# Altium footprint library VapeixS_LIB.PcbLib: 46 footprints (part 3 of 3)
Each footprint in its own frame and in the unit in brackets; x right, y up, seen from the top. Pads: shape width x height; smd on the part's side, far side on the other; paste and mask are expansions set on the pad; w line width, h text height; cw(c..) or ccw(c..) is an arc to the next point about the centre after c.
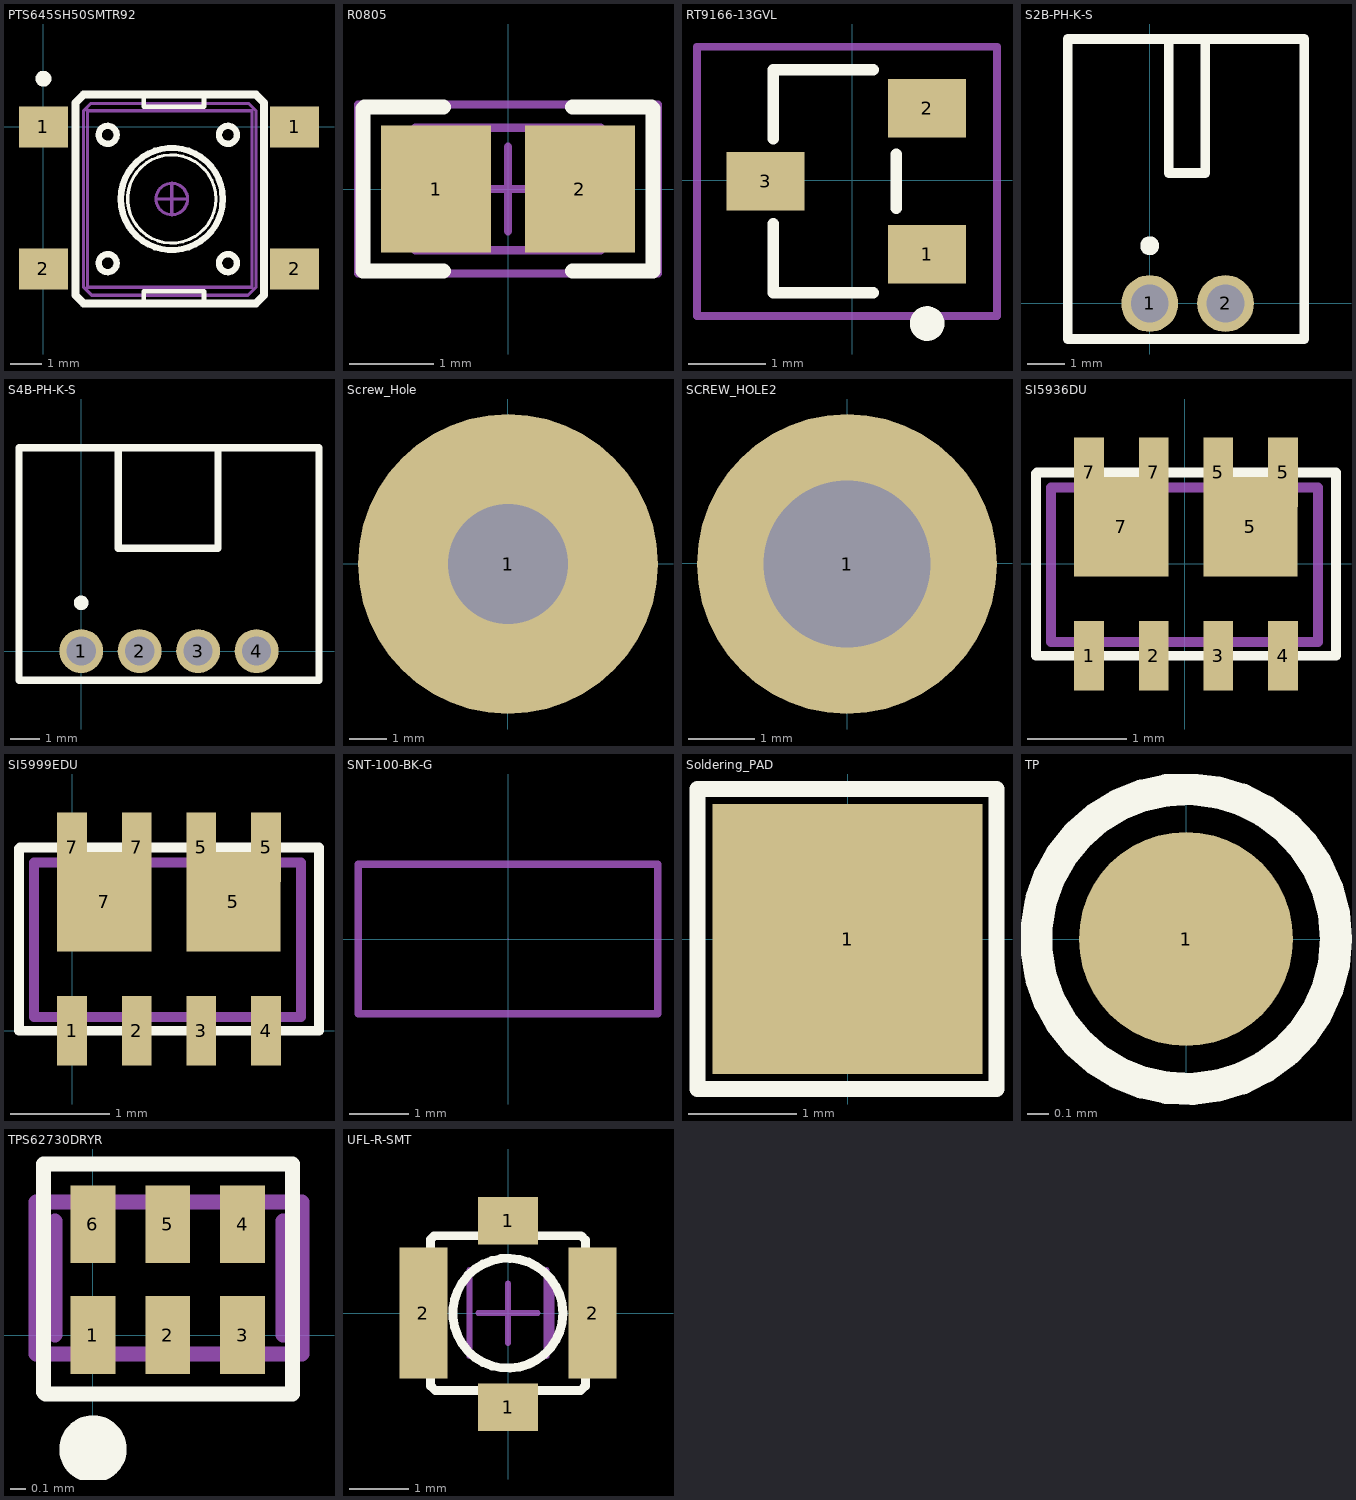
[diagram p2: the footprints below, top view; thin cyan lines are the x and y axes]

## PTS645SH50SMTR92 [mm] "SWITCH TACTILE SPST-NO 0.05A 12V"
pads (4):
  rect 1.55x1.3 smd: 1(0,0) 1(7.95,0) 2(0,-4.5) 2(7.95,-4.5)
Top Overlay:
  circle w0.2: c4.064,-2.286 r1.616
  circle w0.2: c5.842,-0.254 r0.284
  circle w0.2: c5.842,-4.318 r0.284
  circle w0.2: c2.032,-0.254 r0.284
  circle w0.2: c2.032,-4.318 r0.284
  circle w0.1: c4.064,-2.286 r1.397
  circle w0.25: c0,1.524 r0.125
  lines w0.15: 3.175,-5.588 3.175,-5.207 5.08,-5.207 5.08,-5.461 ; 3.175,0.889 3.175,0.635 5.08,0.635 5.08,1.016
  lines w0.254: 1.016,-5.334 1.016,0.762 1.27,1.016 6.731,1.016 6.985,0.762 6.985,-5.334 6.731,-5.588 1.27,-5.588 1.016,-5.334
Mechanical 13:
  circle w0.1: c4.064,-2.286 r0.5
  lines w0.1: 1.397,-5.08 6.604,-5.08 6.604,0.508 1.397,0.508 1.397,-5.08
Mechanical 15:
  lines w0.1: 3.564,-2.286 4.564,-2.286 ; 4.064,-2.786 4.064,-1.786 ; 1.27,-5.08 1.524,-5.334 6.477,-5.334 6.731,-5.08 6.731,0.508 6.502,0.737 1.499,0.737 1.27,0.508 1.27,-5.08
3D body "User Library-PTS645SL43SMTR92-LFS.STEP": height 4.3, standoff 0, extent -0.563,-5.238 8.437,0.762

## R0805 [mm]
pads (2):
  rect 1.3x1.5 smd: 1(-0.85,0) 2(0.85,0)
Top Overlay:
  lines w0.178: -0.762,-0.968 -1.717,-0.968 -1.717,0.95 -1.699,0.968 -0.762,0.968 ; 0.762,-0.968 1.717,-0.968 1.717,0.95 1.699,0.968 0.762,0.968
Mechanical 5:
  lines w0.1: -1.775,-1 -1.775,1 1.775,1 1.775,-1 -1.775,-1
Mechanical 13:
  lines w0.1: -0.65,-0.725 -0.65,0.725 ; 0.65,-0.725 0.65,0.725 ; -1.1,-0.725 -1.1,0.725 1.1,0.725 1.1,-0.725 -1.1,-0.725
Mechanical 15:
  lines w0.1: -0.5,0 0.5,0 ; 0,-0.5 0,0.5 ; -1.775,-1 -1.775,1 1.775,1 1.775,-1 -1.775,-1
3D body "SW3dPS-0805 SMD Resistor.STEP": height 0.78, standoff 0, extent -1,-0.625 1,0.625

## RT9166-13GVL [mil] "IC REG LDO 1.3V 0.3A SOT23-3"
pads (3):
  rect 40x30 smd: 1(38.35,-37.92) 2(38.35,36.89) 3(-44.33,-0.51)
Top Overlay:
  circle w9.84: c38.35,-73.35 r3.94
  lines w5.91: -40.39,-22.17 -40.39,-57.6 10.79,-57.6 ; -40.39,21.14 -40.39,56.57 10.79,56.57 ; 22.6,-14.29 22.6,13.27
Mechanical 15:
  lines w3.94: -79.45,-69.5 -79.45,68.3 74.1,68.3 74.1,-69.5 -79.45,-69.5
3D body "User Library-sot23-1.step": height 39.37, standoff 0, extent -49.06,-57.99 43.07,56.98

## S2B-PH-K-S [mm] "CONN HEADER PH SIDE 2POS 2MM"
pads (2):
  round 1.5 hole 1: 1(0,0) 2(2,0)
Top Overlay:
  circle w0.25: c0,1.524 r0.125
  lines w0.254: 0.503,6.897 0.503,3.444 1.467,3.444 1.467,6.873 ; -2.161,-0.937 4.074,-0.937 4.074,6.982 -2.161,6.982 -2.161,-0.937
3D body "User Library-PCB HEADER (JST SxB-PH-K-S (RIGHT ANGLE))S2B-PH-K-S.STEP": height 4.8, standoff -2, extent -1.976,-0.778 3.924,6.822

## S4B-PH-K-S [mm] "CONN HEADER PH SIDE 4POS 2MM"
pads (4):
  round 1.5 hole 1: 1(0,0) 2(2,0) 3(4,0) 4(6,0)
Top Overlay:
  circle w0.25: c0,1.651 r0.125
  lines w0.254: 1.271,6.934 1.271,3.52 4.681,3.52 4.681,6.939 ; -2.128,-0.997 -2.128,6.957 8.136,6.957 8.136,-0.997 -2.128,-0.997
3D body "User Library-PCB HEADER (JST SxB-PH-K-S (RIGHT ANGLE))S4B-PH-K-S.STEP": height 4.8, standoff -2, extent -1.948,-0.827 7.952,6.773

## Screw_Hole [mm] "8mm x 8mm, Hole Size 3.2mm"
pads (1):
  round 8 hole 3.2: 1(0.006,0)
Mechanical 5:
  circle w0.127: c0.006,0 r3.789
3D body "B_F_NY PMS 440 0025 PH.stp": height 2.69, standoff -8.74, extent -3.296,-3.3 3.302,3.3

## SCREW_HOLE2 [mm] "Screw hole"
pads (1):
  round 4.5 hole 2.5: 1(0,-0.01)

## SI5936DU [mm] "MOSFET 2N-CH 30V 6A POWERPAK"
pads (10):
  rect 0.3x0.7 smd: 1(-0.96,-0.925) 2(-0.312,-0.925) 3(0.335,-0.925) 4(0.985,-0.925) 5(0.335,0.917) 5(0.985,0.917) 7(-0.96,0.917) 7(-0.312,0.917)
  rect 0.945x1 smd: 5(0.659,0.371)
  rect 0.947x1 smd: 7(-0.637,0.371)
Top Overlay:
  lines w0.1: 1.517,0.904 1.517,-0.925 -1.493,-0.925 -1.493,0.904 -1.484,0.913 1.517,0.913
Mechanical 15:
  lines w0.1: 1.339,-0.785 -1.341,-0.785 -1.341,0.764 1.339,0.764 1.339,-0.772
3D body: height 0.1, standoff 0, extent 0.834,-0.856 1.134,-0.556
3D body: height 0.2, standoff 0.1, extent 0.734,-0.856 1.234,-0.556
3D body: height 0.1, standoff 0, extent 0.184,-0.856 0.484,-0.557
3D body: height 0.2, standoff 0.1, extent 0.084,-0.857 0.584,-0.557
3D body: height 0.1, standoff 0, extent -0.46,-0.855 -0.16,-0.555
3D body: height 0.2, standoff 0.1, extent -0.56,-0.855 -0.06,-0.555
3D body: height 0.2, standoff 0.1, extent -1.21,-0.855 -0.71,-0.555
3D body: height 0.1, standoff 0, extent -1.11,-0.855 -0.81,-0.555
3D body: height 0.85, standoff 0, extent -1.39,-0.825 1.39,0.825
3D body: height 0.1, standoff 0, extent 0.835,0.546 1.135,0.846
3D body: height 0.2, standoff 0.1, extent 0.735,0.546 1.235,0.846
3D body: height 0.2, standoff 0.1, extent 0.085,0.546 0.585,0.846
3D body: height 0.1, standoff 0, extent 0.185,0.546 0.485,0.846
3D body: height 0.2, standoff 0.1, extent -0.559,0.547 -0.059,0.847
3D body: height 0.1, standoff 0, extent -0.459,0.547 -0.159,0.847
3D body: height 0.2, standoff 0.1, extent -1.209,0.547 -0.709,0.847
3D body: height 0.1, standoff 0, extent -1.109,0.547 -0.809,0.847

## SI5999EDU [mm] "MOSFET 2P-CH 20V 6A POWERPAK"
pads (10):
  rect 0.3x0.7 smd: 1(0,0) 2(0.648,0) 3(1.295,0) 4(1.945,0) 5(1.295,1.841) 5(1.945,1.841) 7(0,1.841) 7(0.648,1.841)
  rect 0.945x1 smd: 5(1.619,1.296)
  rect 0.947x1 smd: 7(0.323,1.296)
Top Overlay:
  lines w0.1: 2.476,1.829 2.476,0 -0.533,0 -0.533,1.829 -0.524,1.838 2.477,1.838
Mechanical 15:
  lines w0.1: 2.299,0.14 -0.381,0.14 -0.381,1.689 2.299,1.689 2.299,0.152
3D body: height 0.1, standoff 0, extent -0.149,1.471 0.151,1.771
3D body: height 0.2, standoff 0.1, extent -0.249,1.471 0.251,1.771
3D body: height 0.1, standoff 0, extent 0.501,1.472 0.801,1.772
3D body: height 0.2, standoff 0.1, extent 0.401,1.472 0.901,1.772
3D body: height 0.1, standoff 0, extent 1.145,1.471 1.445,1.771
3D body: height 0.2, standoff 0.1, extent 1.045,1.471 1.545,1.771
3D body: height 0.2, standoff 0.1, extent 1.695,1.471 2.195,1.771
3D body: height 0.1, standoff 0, extent 1.795,1.471 2.095,1.771
3D body: height 0.85, standoff 0, extent -0.43,0.1 2.35,1.75
3D body: height 0.1, standoff 0, extent -0.15,0.07 0.15,0.37
3D body: height 0.2, standoff 0.1, extent -0.25,0.07 0.25,0.37
3D body: height 0.2, standoff 0.1, extent 0.4,0.07 0.9,0.37
3D body: height 0.1, standoff 0, extent 0.5,0.07 0.8,0.37
3D body: height 0.2, standoff 0.1, extent 1.044,0.068 1.544,0.368
3D body: height 0.1, standoff 0, extent 1.144,0.068 1.444,0.368
3D body: height 0.2, standoff 0.1, extent 1.694,0.069 2.194,0.369
3D body: height 0.1, standoff 0, extent 1.794,0.069 2.094,0.369

## SNT-100-BK-G [mil] "Samtec STEP model"
pads (1):
  round 1 on Mech3: 0(0,0)
Mechanical 5:
  lines w5: -100,-50 -100,50 100,50 100,-50 -100,-50
3D body "SNT-100-XX-X.stp": height 344, standoff 104, extent -100,-50.05 100,50.05

## Soldering_PAD [mm] "Soldering Pad"
pads (1):
  rect 2.5x2.5 smd: 1(0,0)
Top Overlay:
  lines w0.15: -1.39,-1.39 -1.39,1.39 1.38,1.39 1.38,-1.39 -1.39,-1.39

## TP [mm] "Test Point"
pads (1):
  round 1 smd paste-5: 1(0,0)
Top Overlay:
  circle w0.15: c0,0 r0.7

## TPS62730DRYR [mm] "IC DCDC CONV STP-DN SYNC LP 6SON"
pads (6):
  rect 0.3x0.52 smd: 1(0,0) 2(0.5,0) 3(1,0) 4(1,0.74) 5(0.5,0.74) 6(0,0.74)
Top Overlay:
  lines w0.1: -0.33,-0.381 -0.33,1.143 1.333,1.143 1.333,-0.394 -0.318,-0.394 -0.33,-0.381
  lines w0.25: 0.099,-0.751 ccw(c0,-0.762) 0.1,-0.762
Mechanical 13:
  lines w0.1: -0.254,0 -0.254,0.762 ; 1.27,0 1.27,0.762
Mechanical 15:
  lines w0.1: -0.381,-0.127 1.397,-0.127 1.397,0.889 -0.381,0.889 -0.381,-0.127
3D body "User Library-SON-6.STEP": height 0.6, standoff -0.05, extent -0.254,-0.194 1.246,0.956

## UFL-R-SMT [mm] "CONN UMC JACK STR 50 OHM SMD"
pads (4):
  rect 1x0.8 smd: 1(0,-1.58) 1(0,1.55)
  rect 0.8x2.2 smd: 2(-1.42,0) 2(1.42,0)
Top Overlay:
  circle w0.15: c-0.002,-0.002 r0.924
  lines w0.15: -1.3,-1.221 -1.3,1.241 -1.241,1.3 1.228,1.3 1.3,1.228 1.3,-1.221 1.221,-1.3 -1.221,-1.3 -1.3,-1.221
Mechanical 13:
  lines w0.1: -0.65,-0.725 -0.65,0.725 ; 0.65,-0.725 0.65,0.725
Mechanical 15:
  lines w0.1: -0.5,0 0.5,0 ; 0,-0.5 0,0.5 ; 0.73,-0.5 0.73,0.5
3D body "SW3dPS-UFL-R-SMD.STEP": height 1.25, standoff 0, extent -1.71,-1.55 1.69,1.55